# EAGLE library part LFXP15C_XXF256 (library lattice)
lfxp15c_fpbga256 edit this description Auto generated by make-symbol-device-package-bsdl.ulp Rev. 20 Source: lfxp15c_fpbga256.bsm
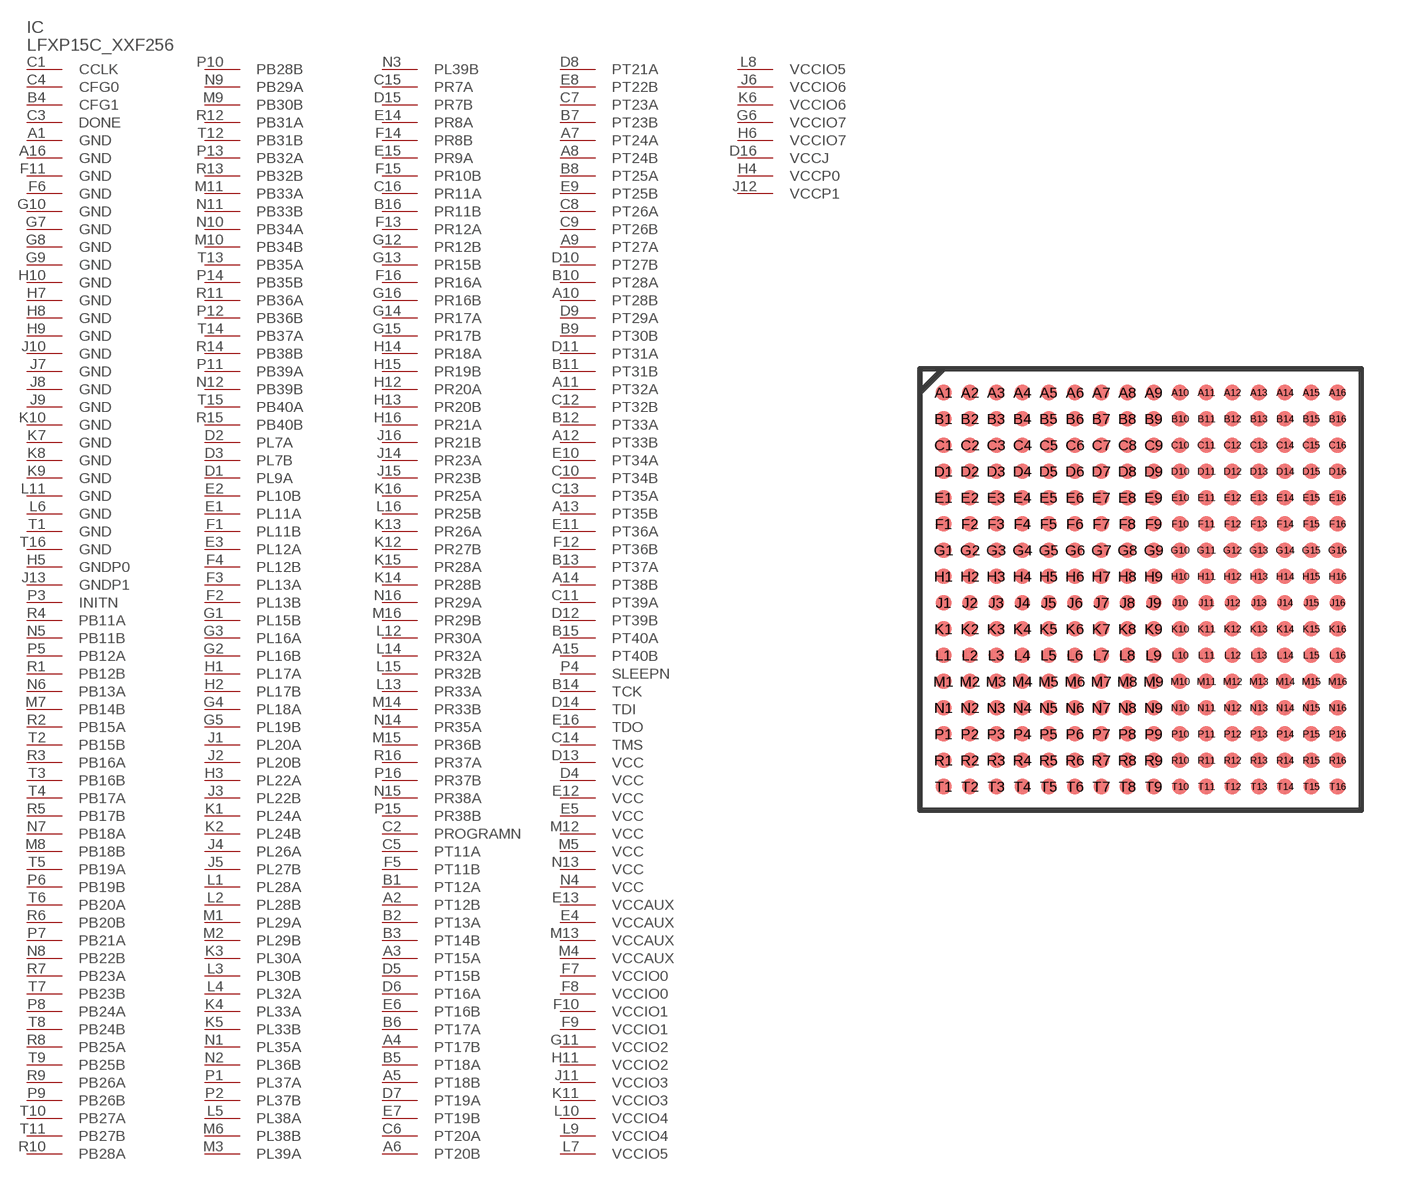
[diagram p19: symbol with the pads of FPBGA_256; footprint FPBGA_256]

Designator prefix IC

## LFXP15C_XXF256  [FPBGA_256]
A1  GND  pwr
A2  PT12B
A3  PT15A
A4  PT17B
A5  PT18B
A6  PT20B
A7  PT24A
A8  PT24B
A9  PT27A
A10  PT28B
A11  PT32A
A12  PT33B
A13  PT35B
A14  PT38B
A15  PT40B
A16  GND  pwr
B1  PT12A
B2  PT13A
B3  PT14B
B4  CFG1  in
B5  PT18A
B6  PT17A
B7  PT23B
B8  PT25A
B9  PT30B
B10  PT28A
B11  PT31B
B12  PT33A
B13  PT37A
B14  TCK  in
B15  PT40A
B16  PR11B
C1  CCLK
C2  PROGRAMN  in
C3  DONE
C4  CFG0  in
C5  PT11A
C6  PT20A
C7  PT23A
C8  PT26A
C9  PT26B
C10  PT34B
C11  PT39A
C12  PT32B
C13  PT35A
C14  TMS  in
C15  PR7A
C16  PR11A
D1  PL9A
D2  PL7A
D3  PL7B
D4  VCC  pwr
D5  PT15B
D6  PT16A
D7  PT19A
D8  PT21A
D9  PT29A
D10  PT27B
D11  PT31A
D12  PT39B
D13  VCC  pwr
D14  TDI  in
D15  PR7B
D16  VCCJ  pwr
E1  PL11A
E2  PL10B
E3  PL12A
E4  VCCAUX  pwr
E5  VCC  pwr
E6  PT16B
E7  PT19B
E8  PT22B
E9  PT25B
E10  PT34A
E11  PT36A
E12  VCC  pwr
E13  VCCAUX  pwr
E14  PR8A
E15  PR9A
E16  TDO  out
F1  PL11B
F2  PL13B
F3  PL13A
F4  PL12B
F5  PT11B
F6  GND  pwr
F7  VCCIO0  pwr
F8  VCCIO0  pwr
F9  VCCIO1  pwr
F10  VCCIO1  pwr
F11  GND  pwr
F12  PT36B
F13  PR12A
F14  PR8B
F15  PR10B
F16  PR16A
G1  PL15B
G2  PL16B
G3  PL16A
G4  PL18A
G5  PL19B
G6  VCCIO7  pwr
G7  GND  pwr
G8  GND  pwr
G9  GND  pwr
G10  GND  pwr
G11  VCCIO2  pwr
G12  PR12B
G13  PR15B
G14  PR17A
G15  PR17B
G16  PR16B
H1  PL17A
H2  PL17B
H3  PL22A
H4  VCCP0  pwr
H5  GNDP0  pwr
H6  VCCIO7  pwr
H7  GND  pwr
H8  GND  pwr
H9  GND  pwr
H10  GND  pwr
H11  VCCIO2  pwr
H12  PR20A
H13  PR20B
H14  PR18A
H15  PR19B
H16  PR21A
J1  PL20A
J2  PL20B
J3  PL22B
J4  PL26A
J5  PL27B
J6  VCCIO6  pwr
J7  GND  pwr
J8  GND  pwr
J9  GND  pwr
J10  GND  pwr
J11  VCCIO3  pwr
J12  VCCP1  pwr
J13  GNDP1  pwr
J14  PR23A
J15  PR23B
J16  PR21B
K1  PL24A
K2  PL24B
K3  PL30A
K4  PL33A
K5  PL33B
K6  VCCIO6  pwr
K7  GND  pwr
K8  GND  pwr
K9  GND  pwr
K10  GND  pwr
K11  VCCIO3  pwr
K12  PR27B
K13  PR26A
K14  PR28B
K15  PR28A
K16  PR25A
L1  PL28A
L2  PL28B
L3  PL30B
L4  PL32A
L5  PL38A
L6  GND  pwr
L7  VCCIO5  pwr
L8  VCCIO5  pwr
L9  VCCIO4  pwr
L10  VCCIO4  pwr
L11  GND  pwr
L12  PR30A
L13  PR33A
L14  PR32A
L15  PR32B
L16  PR25B
M1  PL29A
M2  PL29B
M3  PL39A
M4  VCCAUX  pwr
M5  VCC  pwr
M6  PL38B
M7  PB14B
M8  PB18B
M9  PB30B
M10  PB34B
M11  PB33A
M12  VCC  pwr
M13  VCCAUX  pwr
M14  PR33B
M15  PR36B
M16  PR29B
N1  PL35A
N2  PL36B
N3  PL39B
N4  VCC  pwr
N5  PB11B
N6  PB13A
N7  PB18A
N8  PB22B
N9  PB29A
N10  PB34A
N11  PB33B
N12  PB39B
N13  VCC  pwr
N14  PR35A
N15  PR38A
N16  PR29A
P1  PL37A
P2  PL37B
P3  INITN
P4  SLEEPN  in
P5  PB12A
P6  PB19B
P7  PB21A
P8  PB24A
P9  PB26B
P10  PB28B
P11  PB39A
P12  PB36B
P13  PB32A
P14  PB35B
P15  PR38B
P16  PR37B
R1  PB12B
R2  PB15A
R3  PB16A
R4  PB11A
R5  PB17B
R6  PB20B
R7  PB23A
R8  PB25A
R9  PB26A
R10  PB28A
R11  PB36A
R12  PB31A
R13  PB32B
R14  PB38B
R15  PB40B
R16  PR37A
T1  GND  pwr
T2  PB15B
T3  PB16B
T4  PB17A
T5  PB19A
T6  PB20A
T7  PB23B
T8  PB24B
T9  PB25B
T10  PB27A
T11  PB27B
T12  PB31B
T13  PB35A
T14  PB37A
T15  PB40A
T16  GND  pwr

## Footprint FPBGA_256 (pad centres in mm)
FPBGA 256 Auto generated by make-symbol-device-package-bsdl.ulp Rev. 19 Source: lfxp6c_fpbga256.bsm; http://www.latticesemi.com/lit/docs/package/pkg.pdf
smd 0.6 x 0.6: A1 -7.5,7.5; A2 -6.5,7.5; A3 -5.5,7.5; A4 -4.5,7.5; A5 -3.5,7.5; A6 -2.5,7.5; A7 -1.5,7.5; A8 -0.5,7.5; A9 0.5,7.5; A10 1.5,7.5; A11 2.5,7.5; A12 3.5,7.5; A13 4.5,7.5; A14 5.5,7.5; A15 6.5,7.5; A16 7.5,7.5; B1 -7.5,6.5; B2 -6.5,6.5; B3 -5.5,6.5; B4 -4.5,6.5; B5 -3.5,6.5; B6 -2.5,6.5; B7 -1.5,6.5; B8 -0.5,6.5; B9 0.5,6.5; B10 1.5,6.5; B11 2.5,6.5; B12 3.5,6.5; B13 4.5,6.5; B14 5.5,6.5; B15 6.5,6.5; B16 7.5,6.5; C1 -7.5,5.5; C2 -6.5,5.5; C3 -5.5,5.5; C4 -4.5,5.5; C5 -3.5,5.5; C6 -2.5,5.5; C7 -1.5,5.5; C8 -0.5,5.5; C9 0.5,5.5; C10 1.5,5.5; C11 2.5,5.5; C12 3.5,5.5; C13 4.5,5.5; C14 5.5,5.5; C15 6.5,5.5; C16 7.5,5.5; D1 -7.5,4.5; D2 -6.5,4.5; D3 -5.5,4.5; D4 -4.5,4.5; D5 -3.5,4.5; D6 -2.5,4.5; D7 -1.5,4.5; D8 -0.5,4.5; D9 0.5,4.5; D10 1.5,4.5; D11 2.5,4.5; D12 3.5,4.5; D13 4.5,4.5; D14 5.5,4.5; D15 6.5,4.5; D16 7.5,4.5; E1 -7.5,3.5; E2 -6.5,3.5; E3 -5.5,3.5; E4 -4.5,3.5; E5 -3.5,3.5; E6 -2.5,3.5; E7 -1.5,3.5; E8 -0.5,3.5; E9 0.5,3.5; E10 1.5,3.5; E11 2.5,3.5; E12 3.5,3.5; E13 4.5,3.5; E14 5.5,3.5; E15 6.5,3.5; E16 7.5,3.5; F1 -7.5,2.5; F2 -6.5,2.5; F3 -5.5,2.5; F4 -4.5,2.5; F5 -3.5,2.5; F6 -2.5,2.5; F7 -1.5,2.5; F8 -0.5,2.5; F9 0.5,2.5; F10 1.5,2.5; F11 2.5,2.5; F12 3.5,2.5; F13 4.5,2.5; F14 5.5,2.5; F15 6.5,2.5; F16 7.5,2.5; G1 -7.5,1.5; G2 -6.5,1.5; G3 -5.5,1.5; G4 -4.5,1.5; G5 -3.5,1.5; G6 -2.5,1.5; G7 -1.5,1.5; G8 -0.5,1.5; G9 0.5,1.5; G10 1.5,1.5; G11 2.5,1.5; G12 3.5,1.5; G13 4.5,1.5; G14 5.5,1.5; G15 6.5,1.5; G16 7.5,1.5; H1 -7.5,0.5; H2 -6.5,0.5; H3 -5.5,0.5; H4 -4.5,0.5; H5 -3.5,0.5; H6 -2.5,0.5; H7 -1.5,0.5; H8 -0.5,0.5; H9 0.5,0.5; H10 1.5,0.5; H11 2.5,0.5; H12 3.5,0.5; H13 4.5,0.5; H14 5.5,0.5; H15 6.5,0.5; H16 7.5,0.5; J1 -7.5,-0.5; J2 -6.5,-0.5; J3 -5.5,-0.5; J4 -4.5,-0.5; J5 -3.5,-0.5; J6 -2.5,-0.5; J7 -1.5,-0.5; J8 -0.5,-0.5; J9 0.5,-0.5; J10 1.5,-0.5; J11 2.5,-0.5; J12 3.5,-0.5; J13 4.5,-0.5; J14 5.5,-0.5; J15 6.5,-0.5; J16 7.5,-0.5; K1 -7.5,-1.5; K2 -6.5,-1.5; K3 -5.5,-1.5; K4 -4.5,-1.5; K5 -3.5,-1.5; K6 -2.5,-1.5; K7 -1.5,-1.5; K8 -0.5,-1.5; K9 0.5,-1.5; K10 1.5,-1.5; K11 2.5,-1.5; K12 3.5,-1.5; K13 4.5,-1.5; K14 5.5,-1.5; K15 6.5,-1.5; K16 7.5,-1.5; L1 -7.5,-2.5; L2 -6.5,-2.5; L3 -5.5,-2.5; L4 -4.5,-2.5; L5 -3.5,-2.5; L6 -2.5,-2.5; L7 -1.5,-2.5; L8 -0.5,-2.5; L9 0.5,-2.5; L10 1.5,-2.5; L11 2.5,-2.5; L12 3.5,-2.5; L13 4.5,-2.5; L14 5.5,-2.5; L15 6.5,-2.5; L16 7.5,-2.5; M1 -7.5,-3.5; M2 -6.5,-3.5; M3 -5.5,-3.5; M4 -4.5,-3.5; M5 -3.5,-3.5; M6 -2.5,-3.5; M7 -1.5,-3.5; M8 -0.5,-3.5; M9 0.5,-3.5; M10 1.5,-3.5; M11 2.5,-3.5; M12 3.5,-3.5; M13 4.5,-3.5; M14 5.5,-3.5; M15 6.5,-3.5; M16 7.5,-3.5; N1 -7.5,-4.5; N2 -6.5,-4.5; N3 -5.5,-4.5; N4 -4.5,-4.5; N5 -3.5,-4.5; N6 -2.5,-4.5; N7 -1.5,-4.5; N8 -0.5,-4.5; N9 0.5,-4.5; N10 1.5,-4.5; N11 2.5,-4.5; N12 3.5,-4.5; N13 4.5,-4.5; N14 5.5,-4.5; N15 6.5,-4.5; N16 7.5,-4.5; P1 -7.5,-5.5; P2 -6.5,-5.5; P3 -5.5,-5.5; P4 -4.5,-5.5; P5 -3.5,-5.5; P6 -2.5,-5.5; P7 -1.5,-5.5; P8 -0.5,-5.5; P9 0.5,-5.5; P10 1.5,-5.5; P11 2.5,-5.5; P12 3.5,-5.5; P13 4.5,-5.5; P14 5.5,-5.5; P15 6.5,-5.5; P16 7.5,-5.5; R1 -7.5,-6.5; R2 -6.5,-6.5; R3 -5.5,-6.5; R4 -4.5,-6.5; R5 -3.5,-6.5; R6 -2.5,-6.5; R7 -1.5,-6.5; R8 -0.5,-6.5; R9 0.5,-6.5; R10 1.5,-6.5; R11 2.5,-6.5; R12 3.5,-6.5; R13 4.5,-6.5; R14 5.5,-6.5; R15 6.5,-6.5; R16 7.5,-6.5; T1 -7.5,-7.5; T2 -6.5,-7.5; T3 -5.5,-7.5; T4 -4.5,-7.5; T5 -3.5,-7.5; T6 -2.5,-7.5; T7 -1.5,-7.5; T8 -0.5,-7.5; T9 0.5,-7.5; T10 1.5,-7.5; T11 2.5,-7.5; T12 3.5,-7.5; T13 4.5,-7.5; T14 5.5,-7.5; T15 6.5,-7.5; T16 7.5,-7.5